# Altium schematic symbol library argus_connectors.SchLib: 4 symbols
Pins are listed as number, name and electrical type; pins without a type are passive.

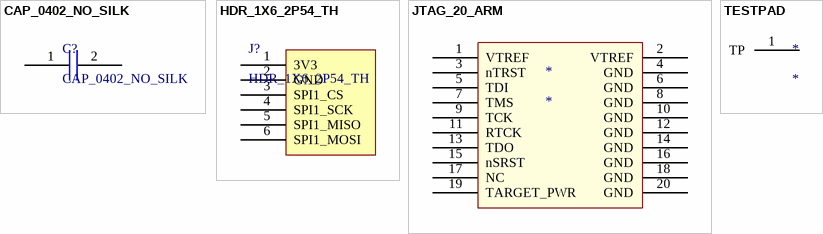
[diagram p0: symbols CAP_0402_NO_SILK to TESTPAD]

## CAP_0402_NO_SILK
designator C?
footprint CAPC0402_1005_NO_SILK
pins: 1, 2

## HDR_1X6_2P54_TH
designator J?
footprint HDR_1X06_2P54_TH
pins: 1 3V3, 2 GND, 3 SPI1_CS, 4 SPI1_SCK, 5 SPI1_MISO, 6 SPI1_MOSI

## JTAG_20_ARM
designator *
footprint JTAG_20_ARM_2X10_2P54_TH
pins: 1 VTREF, 2 VTREF, 3 nTRST, 4 GND, 5 TDI, 6 GND, 7 TMS, 8 GND, 9 TCK, 10 GND, 11 RTCK, 12 GND, 13 TDO, 14 GND, 15 nSRST, 16 GND, 17 NC, 18 GND, 19 TARGET_PWR, 20 GND

## TESTPAD
designator *
footprint TESTPAD_1_TH
pins: 1 TP